# Altium integrated library Free Documents.IntLib: 10 symbols
Pins are listed as number, name and electrical type; pins without a type are passive.

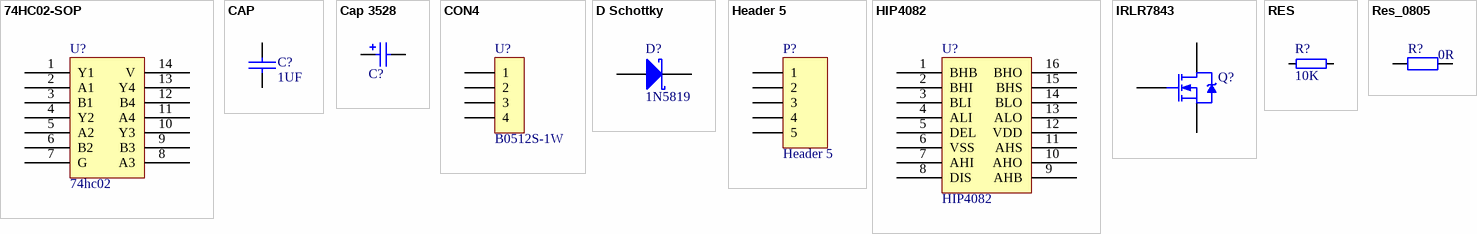
[diagram p0: symbols 74HC02-SOP to Res_0805]

## 74HC02-SOP
designator U?, comment 74hc02
footprint SO14NB
pins: 1 Y1, 2 A1, 3 B1, 4 Y2, 5 A2, 6 B2, 7 G, 8 A3, 9 B3, 10 Y3, 11 A4, 12 B4, 13 Y4, 14 V

## CAP
designator C?, comment 1UF
Capacitor
footprint 0603AC
pins: 1, 2

## Cap 3528
designator C?, comment Cap  (value not drawn)
Polarized Capacitor (Radial); Value: 10uF; Published: 8-Jun-2000; LatestRevisionDate: 17-Jul-2002; LatestRevisionNote: Re-released for DXP Platform.; Publisher: Altium Limited
footprint C3528-2
pins: 1, 2
1 alternate drawing of the same symbol

## CON4
designator U?, comment B0512S-1W
Connector
footprint B0512S
pins: 1, 2, 3, 4

## D Schottky
designator D?, comment 1N5819
Schottky Diode; Published: 8-Jun-2000; LatestRevisionDate: 17-Jul-2002; LatestRevisionNote: Re-released for DXP Platform.; PackageReference: SMB; Publisher: Altium Limited; Code_JEDEC: DO-214-AA
footprint SOD123 (SOD-123; 2 Leads; Body 2.7 x 1.6 mm, (LxW))
pins: 1 A, 2 K

## Header 5
designator P?
Header, 5-Pin; LatestRevisionDate: 17-Jul-2002; LatestRevisionNote: Re-released for DXP Platform.; Publisher: Altium Limited
footprint HDR1X5 (Connector; Header; 5 Position)
pins: 1, 2, 3, 4, 5

## HIP4082
designator U?
footprint SO16NB
pins: 1 BHB, 2 BHI, 3 BLI, 4 ALI, 5 DEL, 6 VSS, 7 AHI, 8 DIS, 9 AHB, 10 AHO, 11 AHS, 12 VDD, 13 ALO, 14 BLO, 15 BHS, 16 BHO

## IRLR7843
designator Q?, comment IRF3205  (value not drawn)
footprint TO252AA
footprint TO-252AA_M (D-PAK, 4-Leads, Body 6.1x6.5mm, Pitch 2.28mm, Lead Span 9.8mm, IPC Low Density)
pins: 1 G, 3 S, 4 D

## RES
designator R?, comment 10K
footprint 0603AR
pins: 1, 2

## Res_0805
designator R?  value 0R  (hidden comment: Res_0805)
Resistor
footprint RES_0805 (Chip Resistor, Body 2.0x1.2mm, 0805, IPC Medium Density)
pins: 1, 2